# Altium footprint library Коммутаторы.PcbLib: 2 footprints
Each footprint in its own frame and in the unit in brackets; x right, y up, seen from the top. Pads: shape width x height; smd on the part's side, far side on the other; paste and mask are expansions set on the pad; w line width, h text height; cw(c..) or ccw(c..) is an arc to the next point about the centre after c.
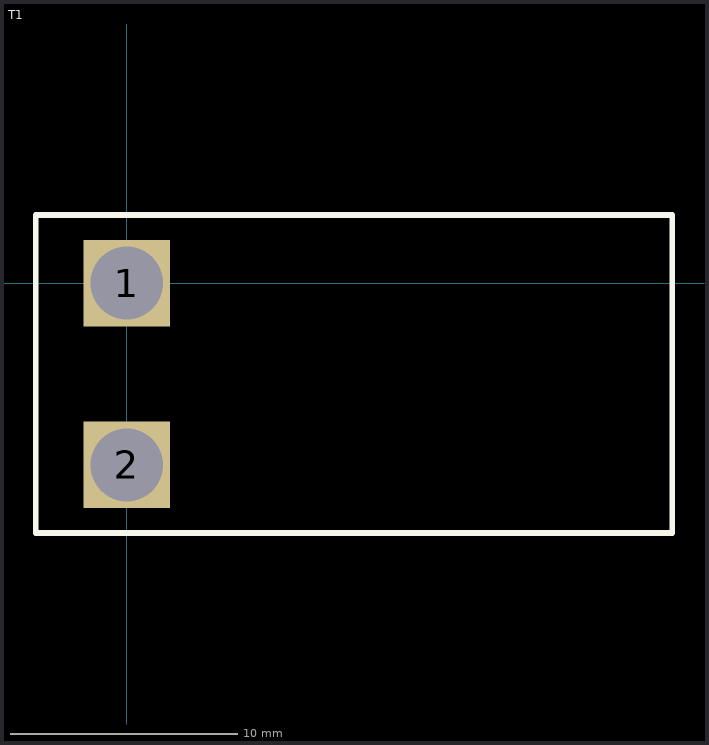
[diagram p0: the footprints below, top view; thin cyan lines are the x and y axes]

## PCBComponent_1 [mm]

## Т1 [mm]
pads (2):
  rect 3.8x3.8 hole 3.2: 1(0,0) 2(0,-8)
Top Overlay:
  lines w0.254: -4,-11 24,-11 24,3 -4,3 -4,-11